# EAGLE library part I/O-EXPANDER (library Library)
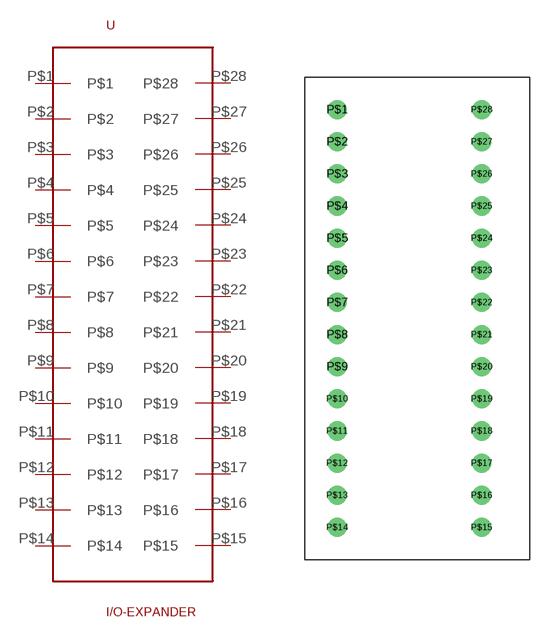
[diagram p15: symbol with the pads of I/O-EXPANDER; footprint I/O-EXPANDER]

Designator prefix -

## I/O-EXPANDER  [I/O-EXPANDER]
P$1  P$1
P$2  P$2
P$3  P$3
P$4  P$4
P$5  P$5
P$6  P$6
P$7  P$7
P$8  P$8
P$9  P$9
P$10  P$10
P$11  P$11
P$12  P$12
P$13  P$13
P$14  P$14
P$15  P$15
P$16  P$16
P$17  P$17
P$18  P$18
P$19  P$19
P$20  P$20
P$21  P$21
P$22  P$22
P$23  P$23
P$24  P$24
P$25  P$25
P$26  P$26
P$27  P$27
P$28  P$28

## Footprint I/O-EXPANDER (pad centres in mm)
drill 1: P$1 -5.08,16.51; P$2 -5.08,13.97; P$3 -5.08,11.43; P$4 -5.08,8.89; P$5 -5.08,6.35; P$6 -5.08,3.81; P$7 -5.08,1.27; P$8 -5.08,-1.27; P$9 -5.08,-3.81; P$10 -5.08,-6.35; P$11 -5.08,-8.89; P$12 -5.08,-11.43; P$13 -5.08,-13.97; P$14 -5.08,-16.51; P$15 6.35,-16.51; P$16 6.35,-13.97; P$17 6.35,-11.43; P$18 6.35,-8.89; P$19 6.35,-6.35; P$20 6.35,-3.81; P$21 6.35,-1.27; P$22 6.35,1.27; P$23 6.35,3.81; P$24 6.35,6.35; P$25 6.35,8.89; P$26 6.35,11.43; P$27 6.35,13.97; P$28 6.35,16.51